# Altium integrated library Quartz Altium_WE-XTAL+(rev20c).IntLib: 317 symbols (part 5 of 5)
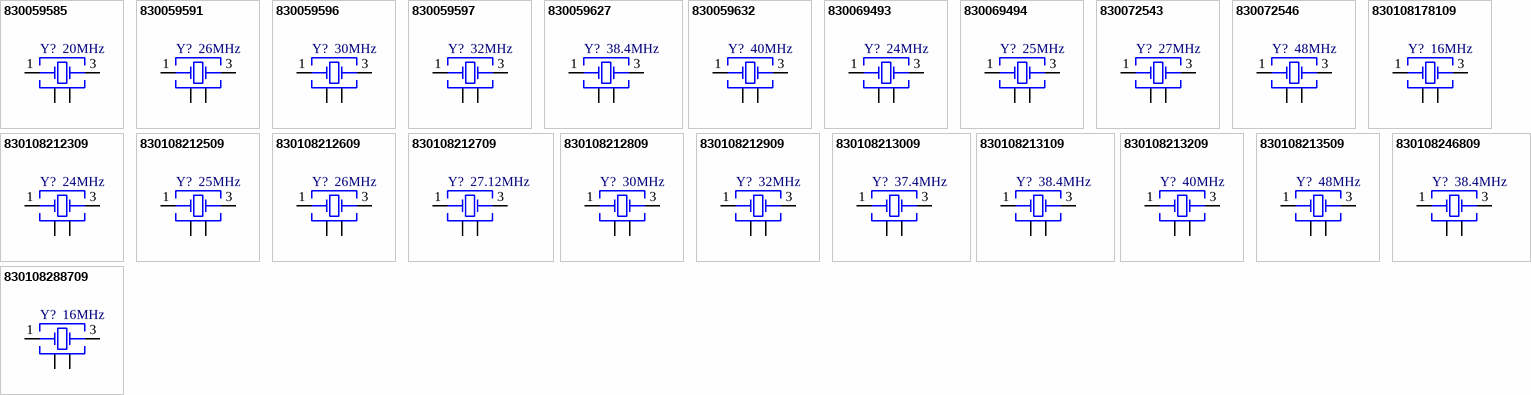
[diagram p20: symbols 830059585 to 830108288709]

## 830108246809
designator Y?, comment 38.4MHz
WE-XTAL Quartz Crystal, SMT, IQXC-42, 38.4MHz, +/-10ppm; Manufacturer Part Number: 830108246809; Manufacturer: Wurth Elektronik; Frequency Stability: +/-15ppm; Load Capacitance: 10pF; ComponentLink1Description: Manufacturer; ComponentLink1URL: http://www.we-online.de; ComponentLink2Description: Datasheet; ComponentLink2URL: https://katalog.we-online.com/pbs/datasheet/830108246809.pdf; Operating Temperature: -40 to +85degC; Packaging: Tape and Reel; Published Date: July 2020; Size: IQXC-42; Frequency: 38.4MHz; Frequency Tolerance: +/-10ppm; Mounting Technology: SMT
footprint WE-XTAL_IQXC-42
pins: 1 Crystal, 2 GND, 3 Crystal, 4 GND

## 830108288709
designator Y?, comment 16MHz
WE-XTAL Quartz Crystal, SMT, IQXC-42, 16MHz, +/-10ppm; Manufacturer Part Number: 830108288709; Manufacturer: Wurth Elektronik; Frequency Stability: +/-30ppm; Load Capacitance: 10pF; ComponentLink1Description: Manufacturer; ComponentLink1URL: http://www.we-online.de; ComponentLink2Description: Datasheet; ComponentLink2URL: https://www.we-online.com/catalog/datasheet/830108288709.pdf; Operating Temperature: -40 to +105degC; Packaging: Tape and Reel; Published Date: November 2020; Size: IQXC-42; Frequency: 16MHz; Frequency Tolerance: +/-10ppm; Mounting Technology: SMT
footprint WE-XTAL_IQXC-42
pins: 1 Crystal, 2 GND, 3 Crystal, 4 GND


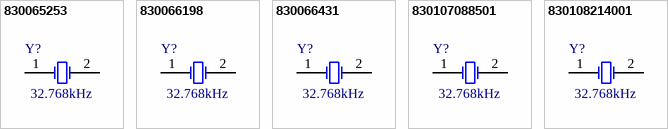
[diagram p15: symbols 830065253 to 830108214001]

## 830065253
designator Y?, comment 32.768kHz
WE-XTAL Watch Crystal, SMT, IQXC-90, 32.768kHz, +/-20ppm; Manufacturer Part Number: 830065253; Manufacturer: Wurth Elektronik; Load Capacitance: 12.5pF; ComponentLink1Description: Manufacturer; ComponentLink1URL: http://www.we-online.de; ComponentLink2Description: Datasheet; ComponentLink2URL: https://katalog.we-online.com/pbs/datasheet/830065253.pdf; Operating Temperature: -40 to +85degC; Packaging: Tape and Reel; Published Date: July 2020; Size: IQXC-90; Frequency Stability: -; Frequency: 32.768kHz; Frequency Tolerance: +/-20ppm; Mounting Technology: SMT
footprint WE-XTAL_IQXC-90
pins: 1 OSC1, 2 OSC2

## 830066198
designator Y?, comment 32.768kHz
WE-XTAL Watch Crystal, SMT, IQXC-90, 32.768kHz, +/-20ppm; Manufacturer Part Number: 830066198; Manufacturer: Wurth Elektronik; Load Capacitance: 9pF; ComponentLink1Description: Manufacturer; ComponentLink1URL: http://www.we-online.de; ComponentLink2Description: Datasheet; ComponentLink2URL: https://katalog.we-online.com/pbs/datasheet/830066198.pdf; Operating Temperature: -40 to +85degC; Packaging: Tape and Reel; Published Date: July 2020; Size: IQXC-90; Frequency Stability: -; Frequency: 32.768kHz; Frequency Tolerance: +/-20ppm; Mounting Technology: SMT
footprint WE-XTAL_IQXC-90
pins: 1 OSC1, 2 OSC2

## 830066431
designator Y?, comment 32.768kHz
WE-XTAL Watch Crystal, SMT, IQXC-90, 32.768kHz, +/-20ppm; Manufacturer Part Number: 830066431; Manufacturer: Wurth Elektronik; Load Capacitance: 7pF; ComponentLink1Description: Manufacturer; ComponentLink1URL: http://www.we-online.de; ComponentLink2Description: Datasheet; ComponentLink2URL: https://katalog.we-online.com/pbs/datasheet/830066431.pdf; Operating Temperature: -40 to +85degC; Packaging: Tape and Reel; Published Date: July 2020; Size: IQXC-90; Frequency Stability: -; Frequency: 32.768kHz; Frequency Tolerance: +/-20ppm; Mounting Technology: SMT
footprint WE-XTAL_IQXC-90
pins: 1 OSC1, 2 OSC2

## 830107088501
designator Y?, comment 32.768kHz
WE-XTAL Watch Crystal, SMT, IQXC-90, 32.768kHz, +/-20ppm; Manufacturer Part Number: 830107088501; Manufacturer: Wurth Elektronik; Load Capacitance: 6pF; ComponentLink1Description: Manufacturer; ComponentLink1URL: http://www.we-online.de; ComponentLink2Description: Datasheet; ComponentLink2URL: https://katalog.we-online.com/pbs/datasheet/830107088501.pdf; Operating Temperature: -40 to +85degC; Packaging: Tape and Reel; Published Date: July 2020; Size: IQXC-90; Frequency Stability: -; Frequency: 32.768kHz; Frequency Tolerance: +/-20ppm; Mounting Technology: SMT
footprint WE-XTAL_IQXC-90
pins: 1 OSC1, 2 OSC2

## 830108214001
designator Y?, comment 32.768kHz
WE-XTAL Watch Crystal, SMT, IQXC-90, 32.768kHz, +/-20ppm; Manufacturer Part Number: 830108214001; Manufacturer: Wurth Elektronik; Load Capacitance: 4pF; ComponentLink1Description: Manufacturer; ComponentLink1URL: http://www.we-online.de; ComponentLink2Description: Datasheet; ComponentLink2URL: https://katalog.we-online.com/pbs/datasheet/830108214001.pdf; Operating Temperature: -40 to +85degC; Packaging: Tape and Reel; Published Date: July 2020; Size: IQXC-90; Frequency Stability: -; Frequency: 32.768kHz; Frequency Tolerance: +/-20ppm; Mounting Technology: SMT
footprint WE-XTAL_IQXC-90
pins: 1 OSC1, 2 OSC2


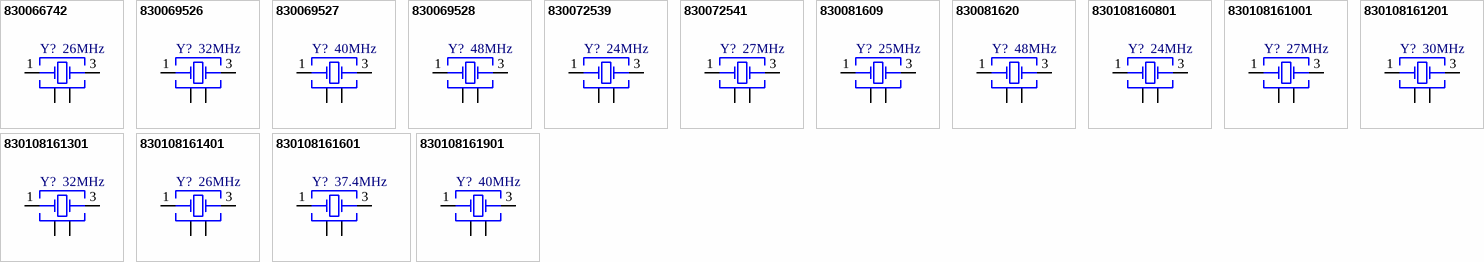
[diagram p16: symbols 830066742 to 830108161901]

## 830066742
designator Y?, comment 26MHz
WE-XTAL Quartz Crystal, SMT, IQXC-26, 26MHz, +/-15ppm; Manufacturer Part Number: 830066742; Manufacturer: Wurth Elektronik; Load Capacitance: 8pF; ComponentLink1Description: Manufacturer; ComponentLink1URL: http://www.we-online.de; ComponentLink2Description: Datasheet; ComponentLink2URL: https://katalog.we-online.com/pbs/datasheet/830066742.pdf; Operating Temperature: -20 to +70degC; Packaging: Tape and Reel; Published Date: July 2020; Size: IQXC-26; Frequency Stability: +/-15ppm; Frequency: 26MHz; Frequency Tolerance: +/-15ppm; Mounting Technology: SMT
footprint WE-XTAL_IQXC-26
pins: 1 Crystal, 2 GND & Lid, 3 Crystal, 4 GND & Lid

## 830069526
designator Y?, comment 32MHz
WE-XTAL Quartz Crystal, SMT, IQXC-26, 32MHz, +/-15ppm; Manufacturer Part Number: 830069526; Manufacturer: Wurth Elektronik; Load Capacitance: 8pF; ComponentLink1Description: Manufacturer; ComponentLink1URL: http://www.we-online.de; ComponentLink2Description: Datasheet; ComponentLink2URL: https://katalog.we-online.com/pbs/datasheet/830069526.pdf; Operating Temperature: -20 to +70degC; Packaging: Tape and Reel; Published Date: July 2020; Size: IQXC-26; Frequency Stability: +/-15ppm; Frequency: 32MHz; Frequency Tolerance: +/-15ppm; Mounting Technology: SMT
footprint WE-XTAL_IQXC-26
pins: 1 Crystal, 2 GND & Lid, 3 Crystal, 4 GND & Lid

## 830069527
designator Y?, comment 40MHz
WE-XTAL Quartz Crystal, SMT, IQXC-26, 40MHz, +/-15ppm; Manufacturer Part Number: 830069527; Manufacturer: Wurth Elektronik; Load Capacitance: 8pF; ComponentLink1Description: Manufacturer; ComponentLink1URL: http://www.we-online.de; ComponentLink2Description: Datasheet; ComponentLink2URL: https://katalog.we-online.com/pbs/datasheet/830069527.pdf; Operating Temperature: -20 to +70degC; Packaging: Tape and Reel; Published Date: July 2020; Size: IQXC-26; Frequency Stability: +/-15ppm; Frequency: 40MHz; Frequency Tolerance: +/-15ppm; Mounting Technology: SMT
footprint WE-XTAL_IQXC-26
pins: 1 Crystal, 2 GND & Lid, 3 Crystal, 4 GND & Lid

## 830069528
designator Y?, comment 48MHz
WE-XTAL Quartz Crystal, SMT, IQXC-26, 48MHz, +/-15ppm; Manufacturer Part Number: 830069528; Manufacturer: Wurth Elektronik; Load Capacitance: 8pF; ComponentLink1Description: Manufacturer; ComponentLink1URL: http://www.we-online.de; ComponentLink2Description: Datasheet; ComponentLink2URL: https://katalog.we-online.com/pbs/datasheet/830069528.pdf; Operating Temperature: -20 to +70degC; Packaging: Tape and Reel; Published Date: July 2020; Size: IQXC-26; Frequency Stability: +/-15ppm; Frequency: 48MHz; Frequency Tolerance: +/-15ppm; Mounting Technology: SMT
footprint WE-XTAL_IQXC-26
pins: 1 Crystal, 2 GND & Lid, 3 Crystal, 4 GND & Lid

## 830072539
designator Y?, comment 24MHz
WE-XTAL Quartz Crystal, SMT, IQXC-26, 24MHz, +/-15ppm; Manufacturer Part Number: 830072539; Manufacturer: Wurth Elektronik; Load Capacitance: 8pF; ComponentLink1Description: Manufacturer; ComponentLink1URL: http://www.we-online.de; ComponentLink2Description: Datasheet; ComponentLink2URL: https://katalog.we-online.com/pbs/datasheet/830072539.pdf; Operating Temperature: -20 to +70degC; Packaging: Tape and Reel; Published Date: July 2020; Size: IQXC-26; Frequency Stability: +/-15ppm; Frequency: 24MHz; Frequency Tolerance: +/-15ppm; Mounting Technology: SMT
footprint WE-XTAL_IQXC-26
pins: 1 Crystal, 2 GND & Lid, 3 Crystal, 4 GND & Lid

## 830072541
designator Y?, comment 27MHz
WE-XTAL Quartz Crystal, SMT, IQXC-26, 27MHz, +/-15ppm; Manufacturer Part Number: 830072541; Manufacturer: Wurth Elektronik; Load Capacitance: 8pF; ComponentLink1Description: Manufacturer; ComponentLink1URL: http://www.we-online.de; ComponentLink2Description: Datasheet; ComponentLink2URL: https://katalog.we-online.com/pbs/datasheet/830072541.pdf; Operating Temperature: -20 to +70degC; Packaging: Tape and Reel; Published Date: July 2020; Size: IQXC-26; Frequency Stability: +/-15ppm; Frequency: 27MHz; Frequency Tolerance: +/-15ppm; Mounting Technology: SMT
footprint WE-XTAL_IQXC-26
pins: 1 Crystal, 2 GND & Lid, 3 Crystal, 4 GND & Lid

## 830081609
designator Y?, comment 25MHz
WE-XTAL Quartz Crystal, SMT, IQXC-26, 25MHz, +/-10ppm; Manufacturer Part Number: 830081609; Manufacturer: Wurth Elektronik; Frequency Stability: +/-20ppm; Load Capacitance: 8pF; ComponentLink1Description: Manufacturer; ComponentLink1URL: http://www.we-online.de; ComponentLink2Description: Datasheet; ComponentLink2URL: https://www.we-online.com/catalog/datasheet/830081609.pdf; Operating Temperature: -40 to +85degC; Packaging: Tape and Reel; Published Date: November 2020; Size: IQXC-26; Frequency: 25MHz; Frequency Tolerance: +/-10ppm; Mounting Technology: SMT
footprint WE-XTAL_IQXC-26
pins: 1 Crystal, 2 GND & Lid, 3 Crystal, 4 GND & Lid

## 830081620
designator Y?, comment 48MHz
WE-XTAL Quartz Crystal, SMT, IQXC-26, 48MHz, +/-10ppm; Manufacturer Part Number: 830081620; Manufacturer: Wurth Elektronik; Frequency Stability: +/-20ppm; Load Capacitance: 8pF; ComponentLink1Description: Manufacturer; ComponentLink1URL: http://www.we-online.de; ComponentLink2Description: Datasheet; ComponentLink2URL: https://www.we-online.com/catalog/datasheet/830081620.pdf; Operating Temperature: -40 to +85degC; Packaging: Tape and Reel; Published Date: November 2020; Size: IQXC-26; Frequency: 48MHz; Frequency Tolerance: +/-10ppm; Mounting Technology: SMT
footprint WE-XTAL_IQXC-26
pins: 1 Crystal, 2 GND & Lid, 3 Crystal, 4 GND & Lid

## 830108160801
designator Y?, comment 24MHz
WE-XTAL Quartz Crystal, SMT, IQXC-26, 24MHz, +/-10ppm; Manufacturer Part Number: 830108160801; Manufacturer: Wurth Elektronik; Frequency Stability: +/-20ppm; Load Capacitance: 8pF; ComponentLink1Description: Manufacturer; ComponentLink1URL: http://www.we-online.de; ComponentLink2Description: Datasheet; ComponentLink2URL: https://katalog.we-online.com/pbs/datasheet/830108160801.pdf; Operating Temperature: -40 to +85degC; Packaging: Tape and Reel; Published Date: July 2020; Size: IQXC-26; Frequency: 24MHz; Frequency Tolerance: +/-10ppm; Mounting Technology: SMT
footprint WE-XTAL_IQXC-26
pins: 1 Crystal, 2 GND & Lid, 3 Crystal, 4 GND & Lid

## 830108161001
designator Y?, comment 27MHz
WE-XTAL Quartz Crystal, SMT, IQXC-26, 27MHz, +/-10ppm; Manufacturer Part Number: 830108161001; Manufacturer: Wurth Elektronik; Frequency Stability: +/-20ppm; Load Capacitance: 8pF; ComponentLink1Description: Manufacturer; ComponentLink1URL: http://www.we-online.de; ComponentLink2Description: Datasheet; ComponentLink2URL: https://katalog.we-online.com/pbs/datasheet/830108161001.pdf; Operating Temperature: -40 to +85degC; Packaging: Tape and Reel; Published Date: July 2020; Size: IQXC-26; Frequency: 27MHz; Frequency Tolerance: +/-10ppm; Mounting Technology: SMT
footprint WE-XTAL_IQXC-26
pins: 1 Crystal, 2 GND & Lid, 3 Crystal, 4 GND & Lid

## 830108161201
designator Y?, comment 30MHz
WE-XTAL Quartz Crystal, SMT, IQXC-26, 30MHz, +/-10ppm; Manufacturer Part Number: 830108161201; Manufacturer: Wurth Elektronik; Frequency Stability: +/-20ppm; Load Capacitance: 8pF; ComponentLink1Description: Manufacturer; ComponentLink1URL: http://www.we-online.de; ComponentLink2Description: Datasheet; ComponentLink2URL: https://katalog.we-online.com/pbs/datasheet/830108161201.pdf; Operating Temperature: -40 to +85degC; Packaging: Tape and Reel; Published Date: July 2020; Size: IQXC-26; Frequency: 30MHz; Frequency Tolerance: +/-10ppm; Mounting Technology: SMT
footprint WE-XTAL_IQXC-26
pins: 1 Crystal, 2 GND & Lid, 3 Crystal, 4 GND & Lid

## 830108161301
designator Y?, comment 32MHz
WE-XTAL Quartz Crystal, SMT, IQXC-26, 32MHz, +/-10ppm; Manufacturer Part Number: 830108161301; Manufacturer: Wurth Elektronik; Frequency Stability: +/-20ppm; Load Capacitance: 8pF; ComponentLink1Description: Manufacturer; ComponentLink1URL: http://www.we-online.de; ComponentLink2Description: Datasheet; ComponentLink2URL: https://katalog.we-online.com/pbs/datasheet/830108161301.pdf; Operating Temperature: -40 to +85degC; Packaging: Tape and Reel; Published Date: July 2020; Size: IQXC-26; Frequency: 32MHz; Frequency Tolerance: +/-10ppm; Mounting Technology: SMT
footprint WE-XTAL_IQXC-26
pins: 1 Crystal, 2 GND & Lid, 3 Crystal, 4 GND & Lid

## 830108161401
designator Y?, comment 26MHz
WE-XTAL Quartz Crystal, SMT, IQXC-26, 26MHz, +/-10ppm; Manufacturer Part Number: 830108161401; Manufacturer: Wurth Elektronik; Frequency Stability: +/-20ppm; Load Capacitance: 8pF; ComponentLink1Description: Manufacturer; ComponentLink1URL: http://www.we-online.de; ComponentLink2Description: Datasheet; ComponentLink2URL: https://katalog.we-online.com/pbs/datasheet/830108161401.pdf; Operating Temperature: -40 to +85degC; Packaging: Tape and Reel; Published Date: July 2020; Size: IQXC-26; Frequency: 26MHz; Frequency Tolerance: +/-10ppm; Mounting Technology: SMT
footprint WE-XTAL_IQXC-26
pins: 1 Crystal, 2 GND & Lid, 3 Crystal, 4 GND & Lid

## 830108161601
designator Y?, comment 37.4MHz
WE-XTAL Quartz Crystal, SMT, IQXC-26, 37.4MHz, +/-10ppm; Manufacturer Part Number: 830108161601; Manufacturer: Wurth Elektronik; Frequency Stability: +/-20ppm; Load Capacitance: 8pF; ComponentLink1Description: Manufacturer; ComponentLink1URL: http://www.we-online.de; ComponentLink2Description: Datasheet; ComponentLink2URL: https://katalog.we-online.com/pbs/datasheet/830108161601.pdf; Operating Temperature: -40 to +85degC; Packaging: Tape and Reel; Published Date: July 2020; Size: IQXC-26; Frequency: 37.4MHz; Frequency Tolerance: +/-10ppm; Mounting Technology: SMT
footprint WE-XTAL_IQXC-26
pins: 1 Crystal, 2 GND & Lid, 3 Crystal, 4 GND & Lid

## 830108161901
designator Y?, comment 40MHz
WE-XTAL Quartz Crystal, SMT, IQXC-26, 40MHz, +/-10ppm; Manufacturer Part Number: 830108161901; Manufacturer: Wurth Elektronik; Frequency Stability: +/-20ppm; Load Capacitance: 8pF; ComponentLink1Description: Manufacturer; ComponentLink1URL: http://www.we-online.de; ComponentLink2Description: Datasheet; ComponentLink2URL: https://katalog.we-online.com/pbs/datasheet/830108161901.pdf; Operating Temperature: -40 to +85degC; Packaging: Tape and Reel; Published Date: July 2020; Size: IQXC-26; Frequency: 40MHz; Frequency Tolerance: +/-10ppm; Mounting Technology: SMT
footprint WE-XTAL_IQXC-26
pins: 1 Crystal, 2 GND & Lid, 3 Crystal, 4 GND & Lid